# Altium schematic symbol library MOUNTING_HOLE.SchLib: 4 symbols
Pins are listed as number, name and electrical type; pins without a type are passive.

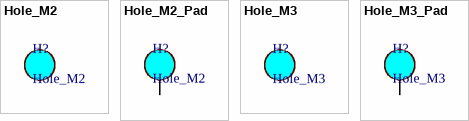
[diagram p0: symbols Hole_M2 to Hole_M3_Pad]

## Hole_M2
designator H?
Hole M2 without pad.
footprint MTHOLE_M2

## Hole_M2_Pad
designator H?, comment Hole_M2
Hole M2 with pad.
footprint MTHole_M2_PAD
footprint MTHole_M2_PAD-VIAS
pins: 1

## Hole_M3
designator H?
Hole M3 without pad.
footprint MTHOLE_M3

## Hole_M3_Pad
designator H?, comment Hole_M3
Hole M3 with pad.
footprint MTHole_M3_PAD (Mounting hole M3.)
footprint MTHole_M3_PAD-VIAS (Mounting hole M3.)
pins: 1